# EAGLE library part RJ45-100BASE (library ds_con)
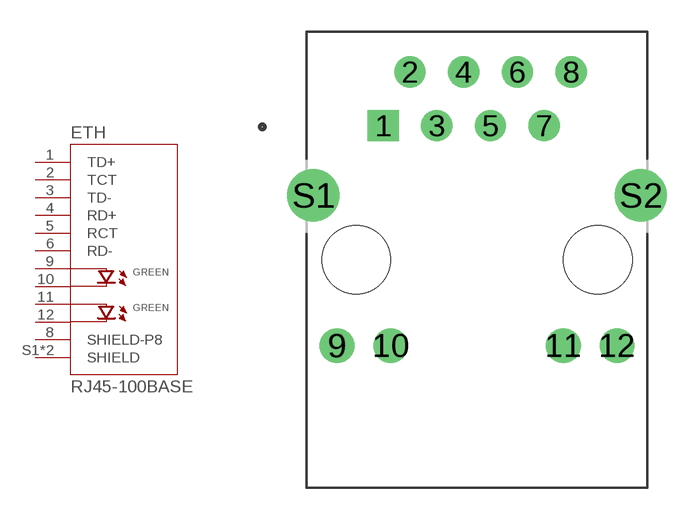
[diagram p28: symbol with the pads of RJ45-100BASE; footprint RJ45-100BASE]

Designator prefix ETH

## RJ45-100BASE (MANUFACTURER: Bel Fuse; MAXIMUM_PACKAGE_HEIGHT: 15.21mm; PARTREV: A0; STANDARD: Manufacturer Recommendations)  [RJ45-100BASE]
1  TD+  pas
2  TCT  pas
3  TD-  pas
4  RD+  pas
5  RCT  pas
6  RD-  pas
8  SHIELD-P8  pas
9  GA1  pas
10  GK1  pas
11  GA2  pas
12  GK2  pas
S1  SHIELD  pas
S2  SHIELD  pas

## Footprint RJ45-100BASE (pad centres in mm)
drill 0.97 square: 1 -4.445,6.35
drill 0.97: 2 -3.175,8.89; 3 -1.905,6.35; 4 -0.635,8.89; 5 0.635,6.35; 6 1.905,8.89; 7 3.175,6.35; 8 4.445,8.89
drill 1.1: 9 -6.625,-4.06; 10 -4.085,-4.06; 11 4.085,-4.06; 12 6.625,-4.06
drill 1.65: S1 -7.745,3.05; S2 7.745,3.05
hole 3.25 at 5.715,0
hole 3.25 at -5.715,0